# Altium footprint library ScienceComponents.PcbLib: 14 footprints
Each footprint in its own frame and in the unit in brackets; x right, y up, seen from the top. Pads: shape width x height; smd on the part's side, far side on the other; paste and mask are expansions set on the pad; w line width, h text height; cw(c..) or ccw(c..) is an arc to the next point about the centre after c.
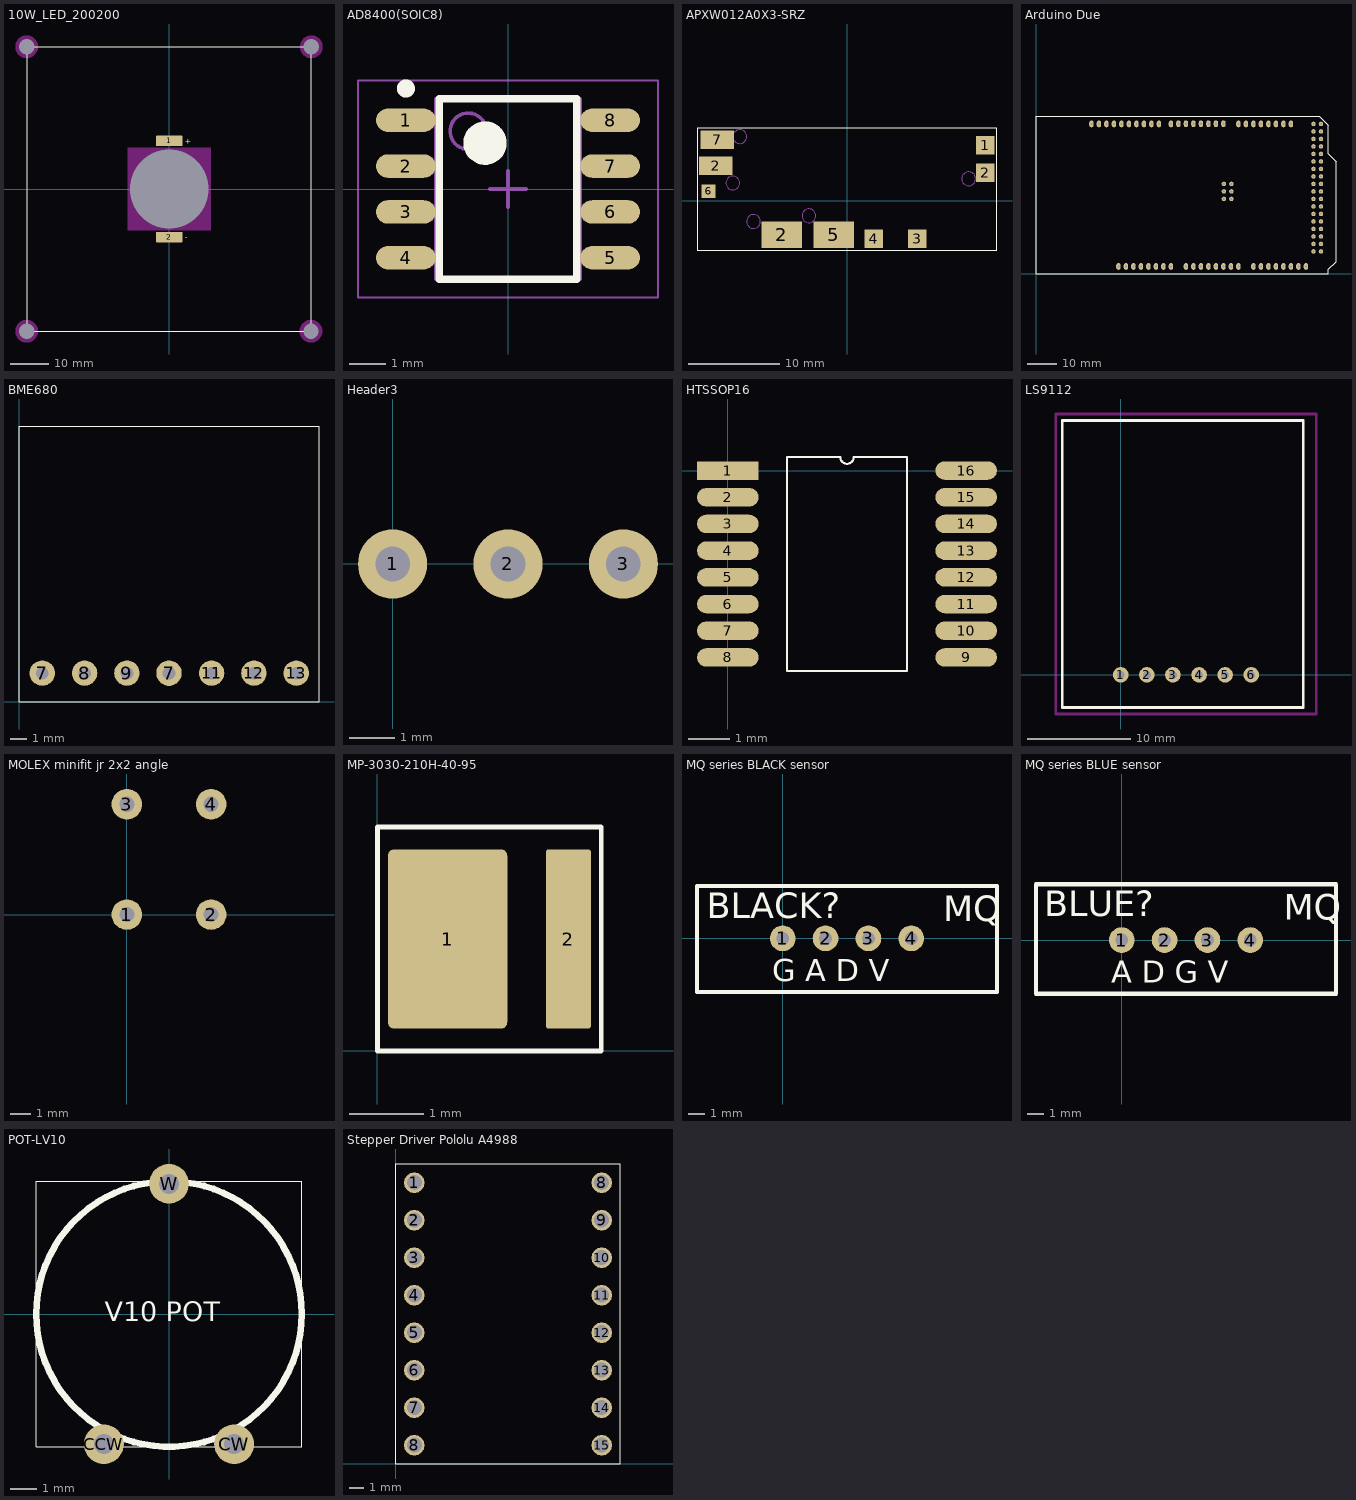
[diagram p0: the footprints below, top view; thin cyan lines are the x and y axes]

## 10W_LED_200200 [mm]
pads (7):
  round 1.524 hole 4.03 unplated: 0(-37.6,-37.5) 0(-37.6,37.5) 0(37.4,-37.5) 0(37.5,37.5)
  rect 20x0 hole 20.8 square unplated mask+0: 0(0,0)
  rrect10% 7x2.7 smd: 1(0,12.7) 2(0,-12.7)
Top Overlay:
  lines w0.025: 37.5,37.5 37.5,-37.5 -37.5,-37.5 -37.5,37.5 37.5,37.5 ; 37.5,37.5 37.5,37.5 ; -37.6,-37.5 -37.6,-37.5 ; -37.6,37.5 -37.6,37.5 ; 37.4,-37.5 37.4,-37.5
  text "+" at 4.154,11.9 h1.52
  text "-" at 4.054,-13.508 h1.52
Keep-Out Layer:
  circle w3: c37.5,37.5 r1.5
  circle w3: c37.4,-37.5 r1.5
  circle w3: c-37.6,-37.5 r1.5
  circle w3: c-37.6,37.5 r1.5
  rectangle: -11,-11 11,11

## AD8400(SOIC8) [mm] "SOIC, 8-Leads, Body 4.90x3.90mm, Pitch 1.27mm, IPC Low Density"
height 1.75
pads (8):
  oval 1.65x0.65 smd: 1(-2.825,1.905) 2(-2.825,0.635) 3(-2.825,-0.635) 4(-2.825,-1.905) 5(2.825,-1.905) 6(2.825,-0.635) 7(2.825,0.635) 8(2.825,1.905)
Top Overlay:
  circle w0.25: c-2.825,2.78 r0.125
  circle w0.6: c-0.635,1.27 r0.3
  lines w0.2: -1.905,-2.5 -1.905,2.5 1.905,2.5 1.905,-2.5 -1.905,-2.5
Mechanical 13:
  circle w0.1: c-1.1,1.6 r0.5
  lines w0.1: -2,-2.5 -2,2.5 2,2.5 2,-2.5 -2,-2.5
Mechanical 15:
  lines w0.05: -4.15,-3 -4.15,3 4.15,3 4.15,-3 -4.15,-3
  lines w0.1: -0.5,0 0.5,0 ; 0,-0.5 0,0.5
3D body: height 1.75, standoff 0.1, extent -2,-2.5 2,2.5

## APXW012A0X3-SRZ [mm]
pads (9):
  rect 2.03x2.03 smd: 1(15.192,6.09) 2(15.192,3.05) 3(7.702,-4.19) 4(2.872,-4.19)
  rect 3.68x2.03 smd: 2(-14.478,3.81) 7(-14.338,6.67)
  rect 4.45x2.92 smd: 2(-7.228,-3.75) 5(-1.508,-3.75)
  rect 1.52x1.52 smd: 6(-15.288,1.01)
Top Overlay:
  lines w0.01: -16.558,8 -16.533,-5.462 16.462,-5.462 16.462,8 -16.558,8
Mechanical 15:
  circle w0.025: c-11.858,7.03 r0.76
  circle w0.025: c-12.618,1.93 r0.76
  circle w0.025: c-10.338,-2.31 r0.76
  circle w0.025: c-4.238,-1.68 r0.76
  circle w0.025: c13.342,2.39 r0.76
3D body: height 10, standoff 0, extent -16.634,-5.437 16.386,8.013

## Arduino Due [mil] "Arduino Due Ghost Footprint"
pads (92):
  oval 60x90 hole 30: 1(1100,100) 2(1200,100) 3(1300,100) 4(1400,100) 5(1500,100) 6(1600,100) 7(1700,100) 8(1800,100) 9(2000,100) 10(2100,100) 11(2200,100) 12(2300,100) 13(2400,100) 14(2500,100) 15(2600,100) 16(2700,100) 17(2900,100) 18(3000,100) 19(3100,100) 20(3200,100) 21(3300,100) 22(3400,100) 23(3500,100) 24(3600,100) 61(3400,2000) 62(3300,2000) 63(3200,2000) 64(3100,2000) 65(3000,2000) 66(2900,2000) 67(2800,2000) 68(2700,2000) 69(2500,2002.5) 70(2400,2002.5) 71(2300,2002.5) 72(2200,2002.5) 73(2100,2002.5) 74(2000,2002.5) 75(1900,2002.5) 76(1800,2000) 77(1640,2000) 78(1540,2000) 79(1440,2000) 80(1340,2000) 81(1240,2000) 82(1140,2000) 83(1040,2000) 84(940,2000) 85(840,2000) 86(740,2000)
  round 60 hole 30: 25(3700,300) 26(3700,400) 27(3700,500) 28(3700,600) 29(3700,700) 30(3700,800) 31(3700,900) 32(3700,1000) 33(3700,1100) 34(3700,1200) 35(3700,1300) 36(3700,1400) 37(3700,1500) 38(3700,1600) 39(3700,1700) 40(3700,1800) 41(3700,1900) 42(3700,2000) 43(3800,300) 44(3800,400) 45(3800,500) 46(3800,600) 47(3800,700) 48(3800,800) 49(3800,900) 50(3800,1000) 51(3800,1100) 52(3800,1200) 53(3800,1300) 54(3800,1400) 55(3800,1500) 56(3800,1600) 57(3800,1700) 58(3800,1800) 59(3800,1900) 60(3800,2000) 87(2505,1200) 88(2605,1200) 89(2505,1100) 90(2605,1100) 91(2505,1000) 92(2605,1000)
Top Overlay:
  lines w10: 0,0 3700,0 3900,0 3900,60 4000,160 4000,1495 3895,1600 3895,1985 3795,2085 3780,2100 0,2100 0,0
Mechanical 1:
  region: 840,2265
Multi-Layer:
  circle w10: c3550,2000 r57.5
  circle w10: c3800,100 r57.5
  circle w10: c600,2000 r57.5
  circle w10: c550,100 r57.5

## BME680 [mil]
pads (7):
  round 60 hole 30: 7(54.97,67) 7(354.33,66.93) 8(154.97,67) 9(254.97,67) 11(454.97,67) 12(554.97,67) 13(654.97,67)
Top Overlay:
  lines w1: 0,0 0,649.61 708.66,649.61 708.66,0 0,0

## Header3 [mil]
pads (3):
  round 60 hole 30: 1(0,0) 2(100,0) 3(200,0)

## HTSSOP16 [mm]
pads (16):
  rect 1.5x0.45 smd: 1(0,0)
  oval 1.5x0.45 smd: 2(0,-0.65) 3(0,-1.3) 4(0,-1.95) 5(0,-2.6) 6(0,-3.25) 7(0,-3.9) 8(0,-4.55) 9(5.8,-4.55) 10(5.8,-3.9) 11(5.8,-3.25) 12(5.8,-2.6) 13(5.8,-1.95) 14(5.8,-1.3) 15(5.8,-0.65) 16(5.8,0)
Top Overlay:
  lines w0.05: 1.435,-4.875 4.365,-4.875 4.365,0.325 3.062,0.325 cw(c2.9,0.325) 2.738,0.325 1.435,0.325 1.435,-4.875

## LS9112 [mil]
pads (6):
  round 60 hole 30: 1(0,0) 2(100,0) 3(200,0) 4(300,0) 5(400,0) 6(500,0)
Top Layer keep-out:
  lines w10: -250,-150 750,-150 750,1000 -250,1000 -250,-150
Top Overlay:
  lines w10: -225,-125 700,-125 700,975 -225,975 -225,-125

## MOLEX minifit jr 2x2 angle [mil]
pads (4):
  round 60 hole 30: 1(0,0) 2(165.35,0) 3(0,216.54) 4(165.35,216.54)
Multi-Layer:
  circle w10: c82.68,-287.4 r55.12

## MP-3030-210H-40-95 [mm] "3030SMT LED"
pads (2):
  rrect10% 1.6x2.4 smd mask+0.025: 1(0.94,1.5)
  rrect10% 0.6x2.4 smd mask+0.025: 2(2.56,1.5)
Top Overlay:
  lines w0.064: 0,0 0,3 3,3 3,0 0,0

## MQ series BLACK sensor [mil]
pads (4):
  round 60 hole 30: 1(0,0) 2(100,0) 3(200,0) 4(300,0)
Top Overlay:
  lines w10: -200,-125 -200,122.05 500,122.05 500,-125 -200,-125
  text "G A D V" at -25,-100 h52.13
  text "BLACK?" at -177.17,47.24 h60
  text "MQ" at 374.02,39.37 h60

## MQ series BLUE sensor [mil]
pads (4):
  round 60 hole 30: 1(0,0) 2(100,0) 3(200,0) 4(300,0)
Top Overlay:
  lines w10: -200,-125 500,-125 500,129.92 -200,129.92 -200,-125
  text "MQ" at 377.95,47.24 h60
  text "BLUE?" at -181.1,55.12 h60
  text "A D G V" at -25,-100 h52.13

## POT-LV10 [mil] "square potentiometer"
pads (3):
  round 60 hole 30: CCW(-98.43,-196.85) CW(98.43,-196.85) W(0,196.85)
Top Overlay:
  circle w10: c0,0 r200.79
  lines w1: 0,200.79 200.79,200.79 200.79,-200.79 -200.79,-200.79 -200.79,200.79 39.37,200.79
  text "V10 POT" at -97.36,-10.75 h30

## Stepper Driver Pololu A4988 [mil]
pads (17):
  round 55 hole 40 unplated: 1(50,750) 2(50,650) 2(50,650) 3(50,550) 4(50,450) 5(50,350) 6(50,250) 7(50,150) 8(50,50) 8(550,750) 9(550,650) 10(550,550) 11(550,450) 12(550,350) 13(550,250) 14(550,150) 15(550,50)
Top Overlay:
  lines w1: 0,0 0,800 600,800 600,0 0,0